# Altium schematic symbol library WeatherStation.SchLib: 9 symbols
Pins are listed as number, name and electrical type; pins without a type are passive.

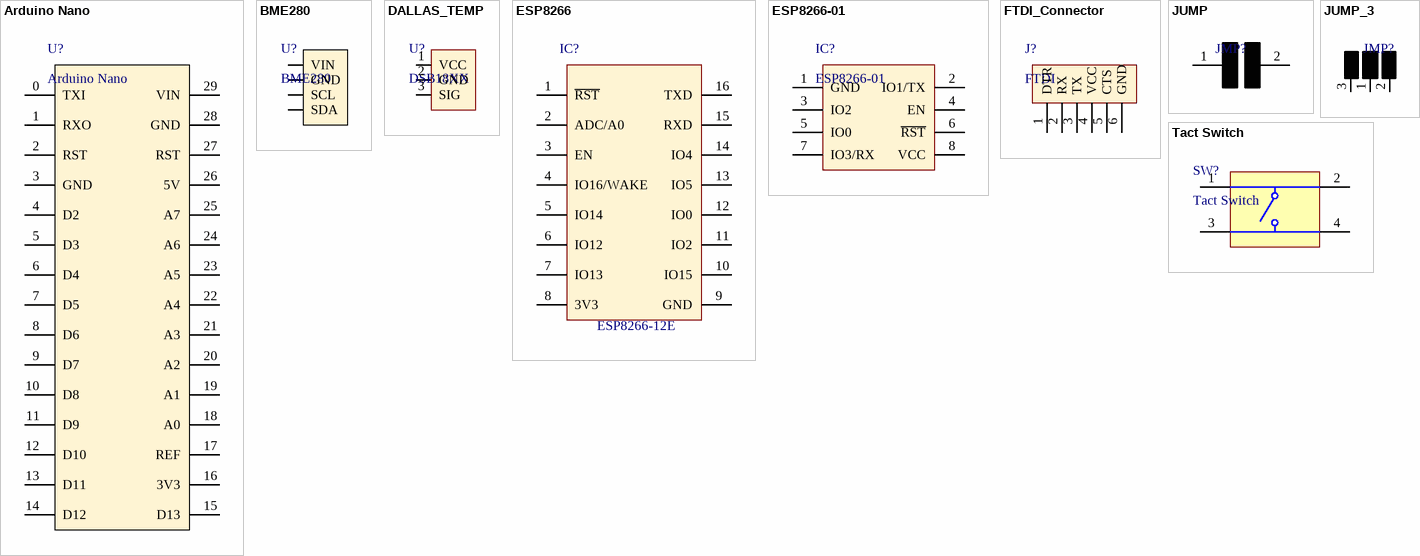
[diagram p0: symbols Arduino Nano to Tact Switch]

## Arduino Nano
designator U?
footprint Arduino Nano
pins: 0 TXI (power), 1 RXO (power), 2 RST (power), 3 GND (power), 4 D2 (power), 5 D3 (power), 6 D4 (power), 7 D5 (power), 8 D6 (power), 9 D7 (power), 10 D8 (power), 11 D9 (power), 12 D10 (power), 13 D11 (power), 14 D12 (power), 15 D13 (power), 16 3V3 (power), 17 REF (power), 18 A0 (power), 19 A1 (power), 20 A2 (power), 21 A3 (power), 22 A4 (power), 23 A5 (power), 24 A6 (power), 25 A7 (power), 26 5V (power), 27 RST (power), 28 GND (power), 29 VIN (power)

## BME280
designator U?
footprint BME280
pins: 1 VIN (power), 2 GND (power), 3 SCL (power), 4 SDA (power)

## DALLAS_TEMP
designator U?, comment DSB18XX
footprint HEAD_1x3
pins: 1 VCC (power), 2 GND (power), 3 SIG (power)

## ESP8266
designator IC?, comment ESP8266-12E
PART: ESP8266-12E
footprint ESP8266-12E
pins: 1 ~{RST} (power), 2 ADC/A0 (power), 3 EN (power), 4 IO16/WAKE (power), 5 IO14 (power), 6 IO12 (power), 7 IO13 (power), 8 3V3 (power), 9 GND (power), 10 IO15 (power), 11 IO2 (power), 12 IO0 (power), 13 IO5 (power), 14 IO4 (power), 15 RXD (power), 16 TXD (power)

## ESP8266-01
designator IC?
footprint ESP8266-01
pins: 1 GND (power), 2 IO1/TX (power), 3 IO2 (power), 4 EN (power), 5 IO0 (power), 6 ~{RST} (power), 7 IO3/RX (power), 8 VCC (power)

## FTDI_Connector
designator J?, comment FTDI
footprint HEAD_1x6
pins: 1 DTR (power), 2 RX (power), 3 TX (power), 4 VCC (power), 5 CTS (power), 6 GND (power)

## JUMP
designator JMP?  (value not drawn)
footprint JUMP
pins: 1 (power), 2 (power)

## JUMP_3
designator JMP?  (value not drawn)
footprint JUMP
footprint JMP3
pins: 1 (power), 2 (power), 3 (power)

## Tact Switch
designator SW?
footprint Tactile Switch
pins: 1, 2, 3, 4